# Altium footprint library nrj-semiconductor.PCBLIB: 1 footprints
Each footprint in its own frame and in the unit in brackets; x right, y up, seen from the top. Pads: shape width x height; smd on the part's side, far side on the other; paste and mask are expansions set on the pad; w line width, h text height; cw(c..) or ccw(c..) is an arc to the next point about the centre after c.
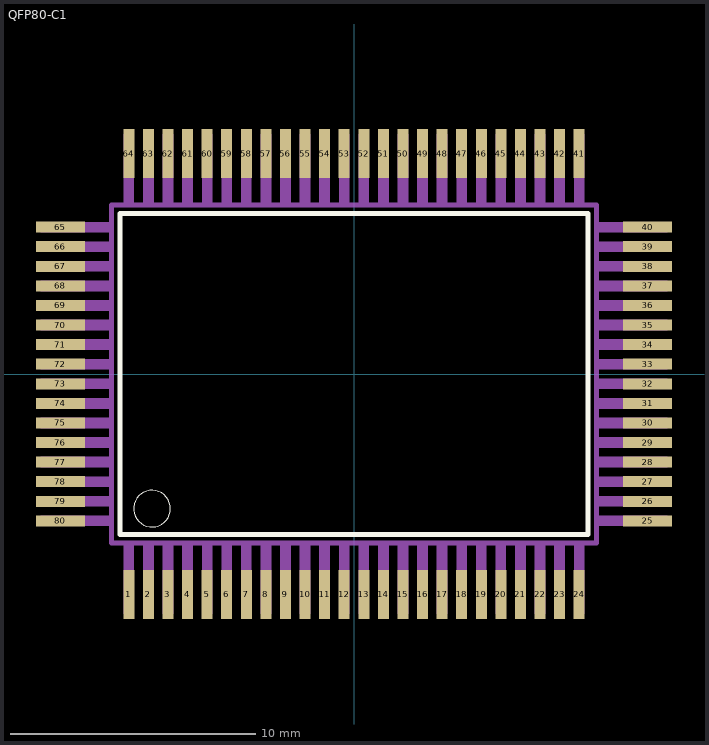
[diagram p0: the footprint, top view; thin cyan lines are the x and y axes]

## QFP80-C1 [mm]
pads (80):
  rect 0.45x2 smd: 1(-9.2,-9) 2(-8.4,-9) 3(-7.6,-9) 4(-6.8,-9) 5(-6,-9) 6(-5.2,-9) 7(-4.4,-9) 8(-3.6,-9) 9(-2.8,-9) 10(-2,-9) 11(-1.2,-9) 12(-0.4,-9) 13(0.4,-9) 14(1.2,-9) 15(2,-9) 16(2.8,-9) 17(3.6,-9) 18(4.4,-9) 19(5.2,-9) 20(6,-9) 21(6.8,-9) 22(7.6,-9) 23(8.4,-9) 24(9.2,-9) 41(9.2,9) 42(8.4,9) 43(7.6,9) 44(6.8,9) 45(6,9) 46(5.2,9) 47(4.4,9) 48(3.6,9) 49(2.8,9) 50(2,9) 51(1.2,9) 52(0.4,9) 53(-0.4,9) 54(-1.2,9) 55(-2,9) 56(-2.8,9) 57(-3.6,9) 58(-4.4,9) 59(-5.2,9) 60(-6,9) 61(-6.8,9) 62(-7.6,9) 63(-8.4,9) 64(-9.2,9)
  rect 2x0.45 smd: 25(12,-6) 26(12,-5.2) 27(12,-4.4) 28(12,-3.6) 29(12,-2.8) 30(12,-2) 31(12,-1.2) 32(12,-0.4) 33(12,0.4) 34(12,1.2) 35(12,2) 36(12,2.8) 37(12,3.6) 38(12,4.4) 39(12,5.2) 40(12,6) 65(-12,6) 66(-12,5.2) 67(-12,4.4) 68(-12,3.6) 69(-12,2.8) 70(-12,2) 71(-12,1.2) 72(-12,0.4) 73(-12,-0.4) 74(-12,-1.2) 75(-12,-2) 76(-12,-2.8) 77(-12,-3.6) 78(-12,-4.4) 79(-12,-5.2) 80(-12,-6)
Top Overlay:
  circle w0: c-8.25,-5.5 r0.75
  lines w0.203: -9.57,-6.56 9.56,-6.56 9.56,6.56 -9.57,6.56 -9.57,-6.56
Mechanical 16:
  rectangle: -9.42,-9.8 -8.98,-6.95
  rectangle: 9.95,-6.22 12.8,-5.78
  rectangle: -8.62,-9.8 -8.18,-6.95
  rectangle: -7.82,-9.8 -7.38,-6.95
  rectangle: -7.02,-9.8 -6.58,-6.95
  rectangle: -6.22,-9.8 -5.78,-6.95
  rectangle: -5.42,-9.8 -4.98,-6.95
  rectangle: -4.62,-9.8 -4.18,-6.95
  rectangle: -3.82,-9.8 -3.38,-6.95
  rectangle: -3.02,-9.8 -2.58,-6.95
  rectangle: -2.22,-9.8 -1.78,-6.95
  rectangle: -1.42,-9.8 -0.98,-6.95
  rectangle: -0.62,-9.8 -0.18,-6.95
  rectangle: 0.18,-9.8 0.62,-6.95
  rectangle: 0.98,-9.8 1.42,-6.95
  rectangle: 1.78,-9.8 2.22,-6.95
  rectangle: 2.58,-9.8 3.02,-6.95
  rectangle: 3.38,-9.8 3.82,-6.95
  rectangle: 4.18,-9.8 4.62,-6.95
  rectangle: 4.98,-9.8 5.42,-6.95
  rectangle: 5.78,-9.8 6.22,-6.95
  rectangle: 6.58,-9.8 7.02,-6.95
  rectangle: 7.38,-9.8 7.82,-6.95
  rectangle: 8.18,-9.8 8.62,-6.95
  rectangle: 8.98,-9.8 9.42,-6.95
  rectangle: 9.95,-5.42 12.8,-4.98
  rectangle: 9.95,-4.62 12.8,-4.18
  rectangle: 9.95,-3.82 12.8,-3.38
  rectangle: 9.95,-3.02 12.8,-2.58
  rectangle: 9.95,-2.22 12.8,-1.78
  rectangle: 9.95,-1.42 12.8,-0.98
  rectangle: 9.95,-0.62 12.8,-0.18
  rectangle: 9.95,0.18 12.8,0.62
  rectangle: 9.95,0.98 12.8,1.42
  rectangle: 9.95,1.78 12.8,2.22
  rectangle: 9.95,2.58 12.8,3.02
  rectangle: 9.95,3.38 12.8,3.82
  rectangle: 9.95,4.18 12.8,4.62
  rectangle: 9.95,4.98 12.8,5.42
  rectangle: 9.95,5.78 12.8,6.22
  rectangle: 8.98,6.95 9.42,9.8
  rectangle: 8.18,6.95 8.62,9.8
  rectangle: 7.38,6.95 7.82,9.8
  rectangle: 6.58,6.95 7.02,9.8
  rectangle: 5.78,6.95 6.22,9.8
  rectangle: 4.98,6.95 5.42,9.8
  rectangle: 4.18,6.95 4.62,9.8
  rectangle: 3.38,6.95 3.82,9.8
  rectangle: 2.58,6.95 3.02,9.8
  rectangle: 1.78,6.95 2.22,9.8
  rectangle: 0.98,6.95 1.42,9.8
  rectangle: 0.18,6.95 0.62,9.8
  rectangle: -0.62,6.95 -0.18,9.8
  rectangle: -1.42,6.95 -0.98,9.8
  rectangle: -2.22,6.95 -1.78,9.8
  rectangle: -3.02,6.95 -2.58,9.8
  rectangle: -3.82,6.95 -3.38,9.8
  rectangle: -4.62,6.95 -4.18,9.8
  rectangle: -5.42,6.95 -4.98,9.8
  rectangle: -6.22,6.95 -5.78,9.8
  rectangle: -7.02,6.95 -6.58,9.8
  rectangle: -7.82,6.95 -7.38,9.8
  rectangle: -8.62,6.95 -8.18,9.8
  rectangle: -9.42,6.95 -8.98,9.8
  rectangle: -12.8,5.78 -9.95,6.22
  rectangle: -12.8,4.98 -9.95,5.42
  rectangle: -12.8,4.18 -9.95,4.62
  rectangle: -12.8,3.38 -9.95,3.82
  rectangle: -12.8,2.58 -9.95,3.02
  rectangle: -12.8,1.78 -9.95,2.22
  rectangle: -12.8,0.98 -9.95,1.42
  rectangle: -12.8,0.18 -9.95,0.62
  rectangle: -12.8,-0.62 -9.95,-0.18
  rectangle: -12.8,-1.42 -9.95,-0.98
  rectangle: -12.8,-2.22 -9.95,-1.78
  rectangle: -12.8,-3.02 -9.95,-2.58
  rectangle: -12.8,-3.82 -9.95,-3.38
  rectangle: -12.8,-4.62 -9.95,-4.18
  rectangle: -12.8,-5.42 -9.95,-4.98
  rectangle: -12.8,-6.22 -9.95,-5.78
  lines w0.203: -9.9,-6.9 9.9,-6.9 9.9,6.9 -9.9,6.9 -9.9,-6.9